# EAGLE library part IMX31_R0 (library modules)
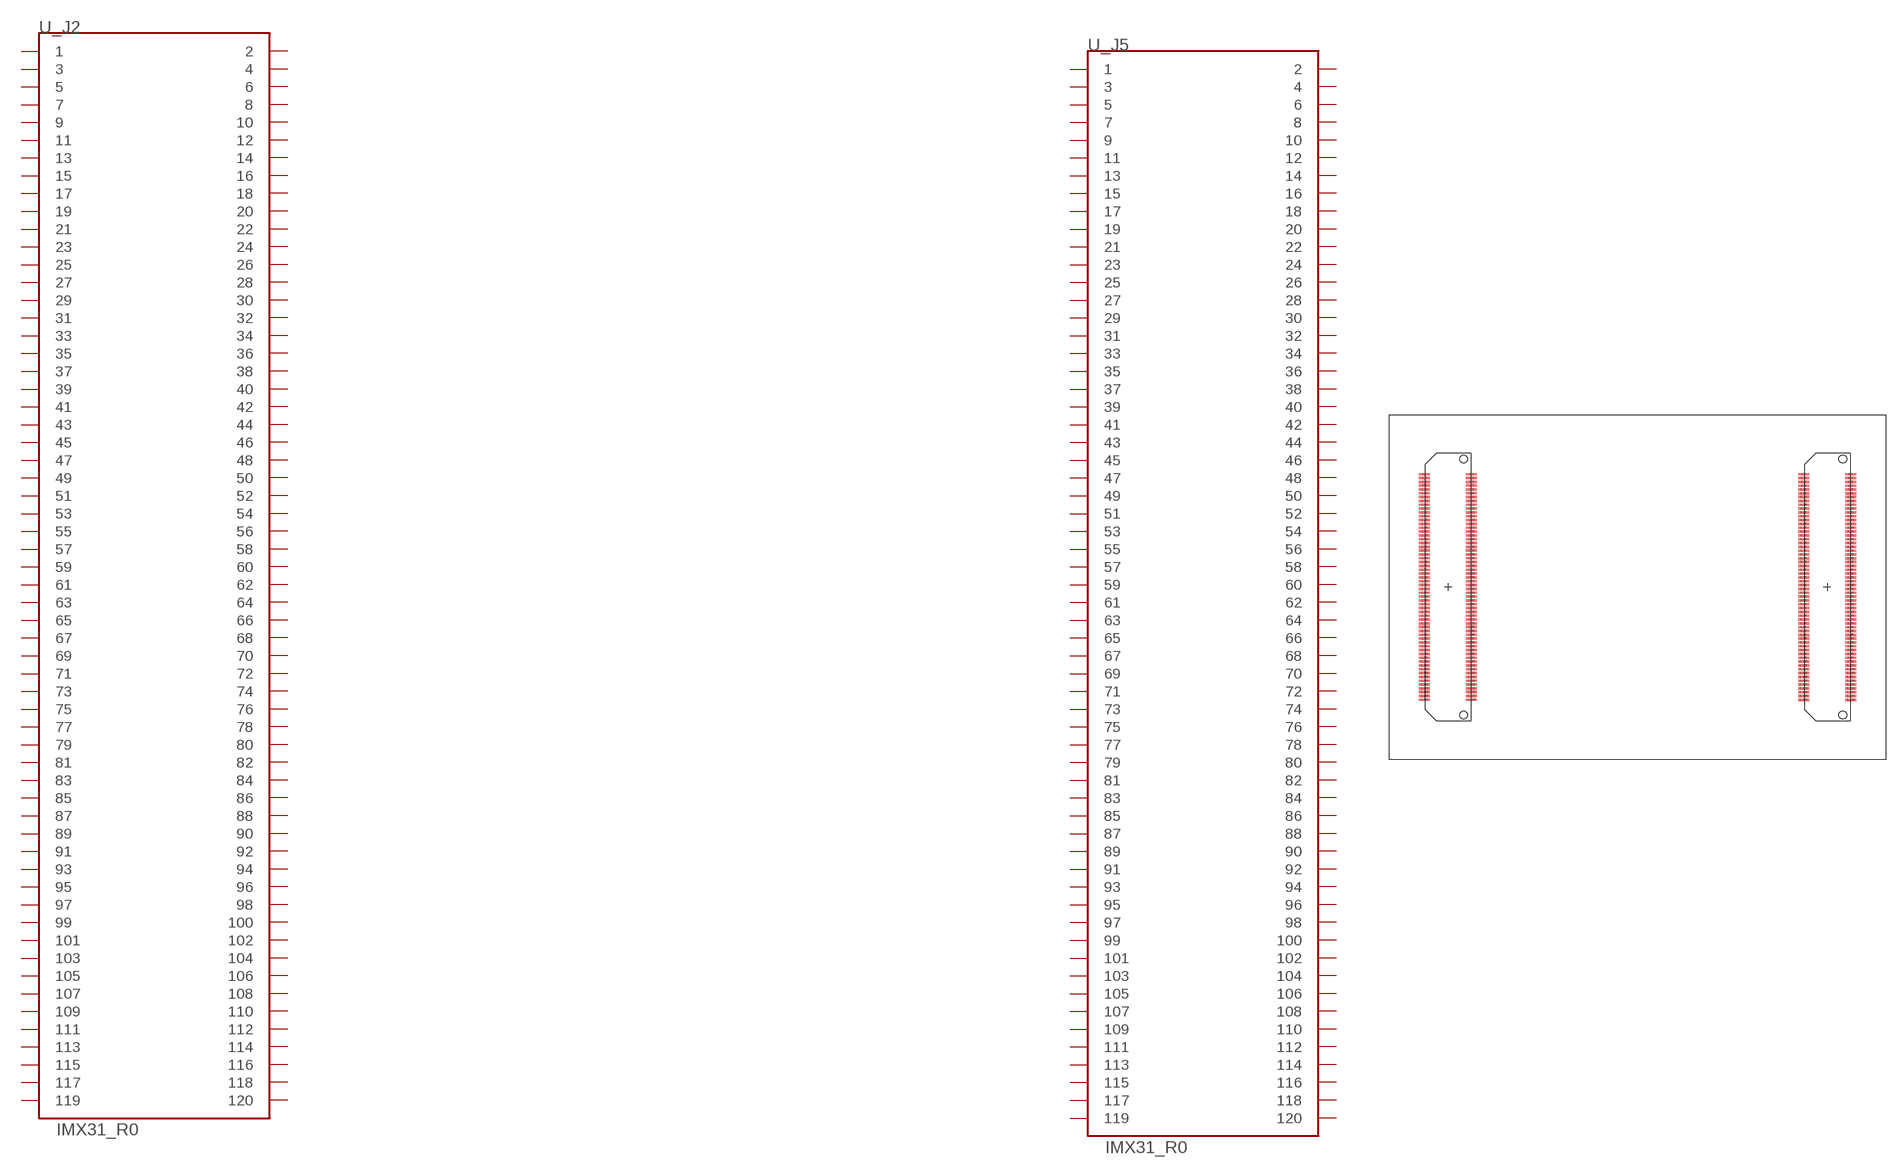
[diagram p7: symbol with the pads of IMX31_R0; footprint IMX31_R0]

Designator prefix -; gates _J2=120PINS-BTB-CONNECTOR _J5=120PINS-BTB-CONNECTOR

## IMX31_R0  [IMX31_R0]
1_1  _J2:1
1_2  _J2:2
1_3  _J2:3
1_4  _J2:4
1_5  _J2:5
1_6  _J2:6
1_7  _J2:7
1_8  _J2:8
1_9  _J2:9
1_10  _J2:10
1_11  _J2:11
1_12  _J2:12
1_13  _J2:13
1_14  _J2:14
1_15  _J2:15
1_16  _J2:16
1_17  _J2:17
1_18  _J2:18
1_19  _J2:19
1_20  _J2:20
1_21  _J2:21
1_22  _J2:22
1_23  _J2:23
1_24  _J2:24
1_25  _J2:25
1_26  _J2:26
1_27  _J2:27
1_28  _J2:28
1_29  _J2:29
1_30  _J2:30
1_31  _J2:31
1_32  _J2:32
1_33  _J2:33
1_34  _J2:34
1_35  _J2:35
1_36  _J2:36
1_37  _J2:37
1_38  _J2:38
1_39  _J2:39
1_40  _J2:40
1_41  _J2:41
1_42  _J2:42
1_43  _J2:43
1_44  _J2:44
1_45  _J2:45
1_46  _J2:46
1_47  _J2:47
1_48  _J2:48
1_49  _J2:49
1_50  _J2:50
1_51  _J2:51
1_52  _J2:52
1_53  _J2:53
1_54  _J2:54
1_55  _J2:55
1_56  _J2:56
1_57  _J2:57
1_58  _J2:58
1_59  _J2:59
1_60  _J2:60
1_61  _J2:61
1_62  _J2:62
1_63  _J2:63
1_64  _J2:64
1_65  _J2:65
1_66  _J2:66
1_67  _J2:67
1_68  _J2:68
1_69  _J2:69
1_70  _J2:70
1_71  _J2:71
1_72  _J2:72
1_73  _J2:73
1_74  _J2:74
1_75  _J2:75
1_76  _J2:76
1_77  _J2:77
1_78  _J2:78
1_79  _J2:79
1_80  _J2:80
1_81  _J2:81
1_82  _J2:82
1_83  _J2:83
1_84  _J2:84
1_85  _J2:85
1_86  _J2:86
1_87  _J2:87
1_88  _J2:88
1_89  _J2:89
1_90  _J2:90
1_91  _J2:91
1_92  _J2:92
1_93  _J2:93
1_94  _J2:94
1_95  _J2:95
1_96  _J2:96
1_97  _J2:97
1_98  _J2:98
1_99  _J2:99
1_100  _J2:100
1_101  _J2:101
1_102  _J2:102
1_103  _J2:103
1_104  _J2:104
1_105  _J2:105
1_106  _J2:106
1_107  _J2:107
1_108  _J2:108
1_109  _J2:109
1_110  _J2:110
1_111  _J2:111
1_112  _J2:112
1_113  _J2:113
1_114  _J2:114
1_115  _J2:115
1_116  _J2:116
1_117  _J2:117
1_118  _J2:118
1_119  _J2:119
1_120  _J2:120
2_1  _J5:1
2_2  _J5:2
2_3  _J5:3
2_4  _J5:4
2_5  _J5:5
2_6  _J5:6
2_7  _J5:7
2_8  _J5:8
2_9  _J5:9
2_10  _J5:10
2_11  _J5:11
2_12  _J5:12
2_13  _J5:13
2_14  _J5:14
2_15  _J5:15
2_16  _J5:16
2_17  _J5:17
2_18  _J5:18
2_19  _J5:19
2_20  _J5:20
2_21  _J5:21
2_22  _J5:22
2_23  _J5:23
2_24  _J5:24
2_25  _J5:25
2_26  _J5:26
2_27  _J5:27
2_28  _J5:28
2_29  _J5:29
2_30  _J5:30
2_31  _J5:31
2_32  _J5:32
2_33  _J5:33
2_34  _J5:34
2_35  _J5:35
2_36  _J5:36
2_37  _J5:37
2_38  _J5:38
2_39  _J5:39
2_40  _J5:40
2_41  _J5:41
2_42  _J5:42
2_43  _J5:43
2_44  _J5:44
2_45  _J5:45
2_46  _J5:46
2_47  _J5:47
2_48  _J5:48
2_49  _J5:49
2_50  _J5:50
2_51  _J5:51
2_52  _J5:52
2_53  _J5:53
2_54  _J5:54
2_55  _J5:55
2_56  _J5:56
2_57  _J5:57
2_58  _J5:58
2_59  _J5:59
2_60  _J5:60
2_61  _J5:61
2_62  _J5:62
2_63  _J5:63
2_64  _J5:64
2_65  _J5:65
2_66  _J5:66
2_67  _J5:67
2_68  _J5:68
2_69  _J5:69
2_70  _J5:70
2_71  _J5:71
2_72  _J5:72
2_73  _J5:73
2_74  _J5:74
2_75  _J5:75
2_76  _J5:76
2_77  _J5:77
2_78  _J5:78
2_79  _J5:79
2_80  _J5:80
2_81  _J5:81
2_82  _J5:82
2_83  _J5:83
2_84  _J5:84
2_85  _J5:85
2_86  _J5:86
2_87  _J5:87
2_88  _J5:88
2_89  _J5:89
2_90  _J5:90
2_91  _J5:91
2_92  _J5:92
2_93  _J5:93
2_94  _J5:94
2_95  _J5:95
2_96  _J5:96
2_97  _J5:97
2_98  _J5:98
2_99  _J5:99
2_100  _J5:100
2_101  _J5:101
2_102  _J5:102
2_103  _J5:103
2_104  _J5:104
2_105  _J5:105
2_106  _J5:106
2_107  _J5:107
2_108  _J5:108
2_109  _J5:109
2_110  _J5:110
2_111  _J5:111
2_112  _J5:112
2_113  _J5:113
2_114  _J5:114
2_115  _J5:115
2_116  _J5:116
2_117  _J5:117
2_118  _J5:118
2_119  _J5:119
2_120  _J5:120

## Footprint IMX31_R0 (pad centres in mm)
CT: 6 oct. 2008: changed drill of locking pins to 0.04" according to datasheet of -A option of connectors.
smd 1.448 x 0.305: 1_1 -21.714,14.755; 1_2 -27.886,14.755; 1_3 -21.714,14.255; 1_4 -27.886,14.255; 1_5 -21.714,13.755; 1_6 -27.886,13.755; 1_7 -21.714,13.255; 1_8 -27.886,13.255; 1_9 -21.714,12.755; 1_10 -27.886,12.755; 1_11 -21.714,12.255; 1_12 -27.886,12.255; 1_13 -21.714,11.755; 1_14 -27.886,11.755; 1_15 -21.714,11.255; 1_16 -27.886,11.255; 1_17 -21.714,10.755; 1_18 -27.886,10.755; 1_19 -21.714,10.255; 1_20 -27.886,10.255; 1_21 -21.714,9.755; 1_22 -27.886,9.755; 1_23 -21.714,9.255; 1_24 -27.886,9.255; 1_25 -21.714,8.755; 1_26 -27.886,8.755; 1_27 -21.714,8.255; 1_28 -27.886,8.255; 1_29 -21.714,7.755; 1_30 -27.886,7.755; 1_31 -21.714,7.255; 1_32 -27.886,7.255; 1_33 -21.714,6.755; 1_34 -27.886,6.755; 1_35 -21.714,6.255; 1_36 -27.886,6.255; 1_37 -21.714,5.755; 1_38 -27.886,5.755; 1_39 -21.714,5.255; 1_40 -27.886,5.255; 1_41 -21.714,4.755; 1_42 -27.886,4.755; 1_43 -21.714,4.255; 1_44 -27.886,4.255; 1_45 -21.714,3.755; 1_46 -27.886,3.755; 1_47 -21.714,3.255; 1_48 -27.886,3.255; 1_49 -21.714,2.755; 1_50 -27.886,2.755; 1_51 -21.714,2.255; 1_52 -27.886,2.255; 1_53 -21.714,1.755; 1_54 -27.886,1.755; 1_55 -21.714,1.255; 1_56 -27.886,1.255; 1_57 -21.714,0.755; 1_58 -27.886,0.755; 1_59 -21.714,0.255; 1_60 -27.886,0.255; 1_61 -21.714,-0.248; 1_62 -27.886,-0.248; 1_63 -21.714,-0.748; 1_64 -27.886,-0.748; 1_65 -21.714,-1.248; 1_66 -27.886,-1.248; 1_67 -21.714,-1.748; 1_68 -27.886,-1.748; 1_69 -21.714,-2.248; 1_70 -27.886,-2.248; 1_71 -21.714,-2.748; 1_72 -27.886,-2.748; 1_73 -21.714,-3.248; 1_74 -27.886,-3.248; 1_75 -21.714,-3.748; 1_76 -27.886,-3.748; 1_77 -21.714,-4.248; 1_78 -27.886,-4.248; 1_79 -21.714,-4.748; 1_80 -27.886,-4.748; 1_81 -21.714,-5.248; 1_82 -27.886,-5.248; 1_83 -21.714,-5.748; 1_84 -27.886,-5.748; 1_85 -21.714,-6.248; 1_86 -27.886,-6.248; 1_87 -21.714,-6.748; 1_88 -27.886,-6.748; 1_89 -21.714,-7.248; 1_90 -27.886,-7.248; 1_91 -21.714,-7.748; 1_92 -27.886,-7.748; 1_93 -21.714,-8.248; 1_94 -27.886,-8.248; 1_95 -21.714,-8.748; 1_96 -27.886,-8.748; 1_97 -21.714,-9.248; 1_98 -27.886,-9.248; 1_99 -21.714,-9.748; 1_100 -27.886,-9.748; 1_101 -21.714,-10.248; 1_102 -27.886,-10.248; 1_103 -21.714,-10.748; 1_104 -27.886,-10.748; 1_105 -21.714,-11.248; 1_106 -27.886,-11.248; 1_107 -21.714,-11.748; 1_108 -27.886,-11.748; 1_109 -21.714,-12.248; 1_110 -27.886,-12.248; 1_111 -21.714,-12.748; 1_112 -27.886,-12.748; 1_113 -21.714,-13.248; 1_114 -27.886,-13.248; 1_115 -21.714,-13.748; 1_116 -27.886,-13.748; 1_117 -21.714,-14.248; 1_118 -27.886,-14.248; 1_119 -21.714,-14.748; 1_120 -27.886,-14.748; 2_1 27.885,14.752; 2_2 21.713,14.752; 2_3 27.885,14.252; 2_4 21.713,14.252; 2_5 27.885,13.752; 2_6 21.713,13.752; 2_7 27.885,13.252; 2_8 21.713,13.252; 2_9 27.885,12.752; 2_10 21.713,12.752; 2_11 27.885,12.252; 2_12 21.713,12.252; 2_13 27.885,11.752; 2_14 21.713,11.752; 2_15 27.885,11.252; 2_16 21.713,11.252; 2_17 27.885,10.752; 2_18 21.713,10.752; 2_19 27.885,10.252; 2_20 21.713,10.252; 2_21 27.885,9.752; 2_22 21.713,9.752; 2_23 27.885,9.252; 2_24 21.713,9.252; 2_25 27.885,8.752; 2_26 21.713,8.752; 2_27 27.885,8.252; 2_28 21.713,8.252; 2_29 27.885,7.752; 2_30 21.713,7.752; 2_31 27.885,7.252; 2_32 21.713,7.252; 2_33 27.885,6.752; 2_34 21.713,6.752; 2_35 27.885,6.252; 2_36 21.713,6.252; 2_37 27.885,5.752; 2_38 21.713,5.752; 2_39 27.885,5.252; 2_40 21.713,5.252; 2_41 27.885,4.752; 2_42 21.713,4.752; 2_43 27.885,4.252; 2_44 21.713,4.252; 2_45 27.885,3.752; 2_46 21.713,3.752; 2_47 27.885,3.251; 2_48 21.713,3.251; 2_49 27.885,2.751; 2_50 21.713,2.751; 2_51 27.885,2.251; 2_52 21.713,2.251; 2_53 27.885,1.752; 2_54 21.713,1.752; 2_55 27.885,1.252; 2_56 21.713,1.252; 2_57 27.885,0.751; 2_58 21.713,0.751; 2_59 27.885,0.252; 2_60 21.713,0.252; 2_61 27.885,-0.252; 2_62 21.713,-0.252; 2_63 27.884,-0.754; 2_64 21.713,-0.751; 2_65 27.885,-1.252; 2_66 21.713,-1.252; 2_67 27.885,-1.752; 2_68 21.713,-1.752; 2_69 27.885,-2.252; 2_70 21.713,-2.252; 2_71 27.885,-2.752; 2_72 21.713,-2.752; 2_73 27.885,-3.252; 2_74 21.713,-3.252; 2_75 27.885,-3.752; 2_76 21.713,-3.752; 2_77 27.885,-4.252; 2_78 21.713,-4.252; 2_79 27.885,-4.752; 2_80 21.713,-4.752; 2_81 27.885,-5.252; 2_82 21.713,-5.252; 2_83 27.885,-5.752; 2_84 21.713,-5.752; 2_85 27.885,-6.252; 2_86 21.713,-6.252; 2_87 27.885,-6.752; 2_88 21.713,-6.752; 2_89 27.885,-7.252; 2_90 21.713,-7.252; 2_91 27.885,-7.752; 2_92 21.713,-7.752; 2_93 27.885,-8.252; 2_94 21.713,-8.252; 2_95 27.885,-8.752; 2_96 21.713,-8.752; 2_97 27.885,-9.252; 2_98 21.713,-9.252; 2_99 27.885,-9.752; 2_100 21.713,-9.752; 2_101 27.885,-10.252; 2_102 21.713,-10.252; 2_103 27.885,-10.752; 2_104 21.713,-10.752; 2_105 27.885,-11.252; 2_106 21.713,-11.252; 2_107 27.885,-11.752; 2_108 21.713,-11.752; 2_109 27.885,-12.252; 2_110 21.713,-12.252; 2_111 27.885,-12.752; 2_112 21.713,-12.752; 2_113 27.885,-13.252; 2_114 21.713,-13.252; 2_115 27.885,-13.752; 2_116 21.713,-13.752; 2_117 27.885,-14.252; 2_118 21.713,-14.252; 2_119 27.885,-14.752; 2_120 21.713,-14.752
hole 1.016 at -22.768,16.74
hole 1.016 at -22.768,-16.735
hole 1.016 at 26.831,16.736
hole 1.016 at 26.831,-16.739